# EAGLE library part ADSL_GDT (library CasaLibrary)
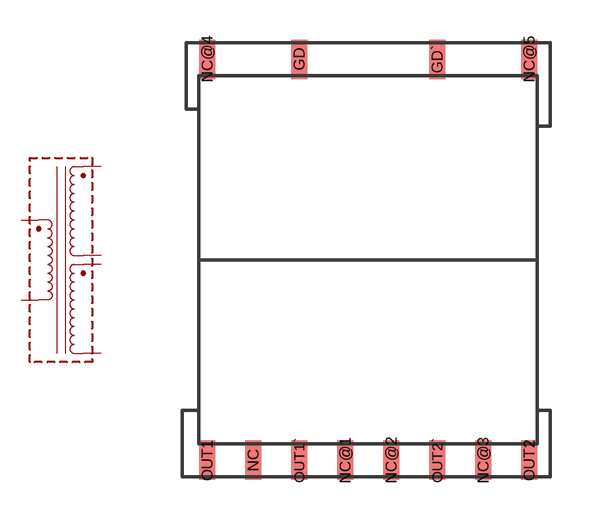
[diagram p21: symbol with the pads of ADSL_GDT; footprint ADSL_GDT]

Designator prefix -

## ADSL_GDT  [ADSL_GDT]
GD  GD1
GD`  GD2
OUT1  OUT1+
OUT1`  OUT1-
OUT2  OUT2+
OUT2`  OUT2-

## Footprint ADSL_GDT (pad centres in mm)
smd 0.6 x 1.5: GD -2.54,8.255; GD` 2.699,8.255; NC -4.286,-6.985; NC@1 -0.794,-6.985; NC@2 0.953,-6.985; NC@3 4.445,-6.985; NC@4 -6.032,8.255; NC@5 6.191,8.255; OUT1 -6.032,-6.985; OUT1` -2.54,-6.985; OUT2 6.191,-6.985; OUT2` 2.699,-6.985